# Altium schematic symbol library SCH_Switch.SchLib: 15 symbols
Pins are listed as number, name and electrical type; pins without a type are passive.

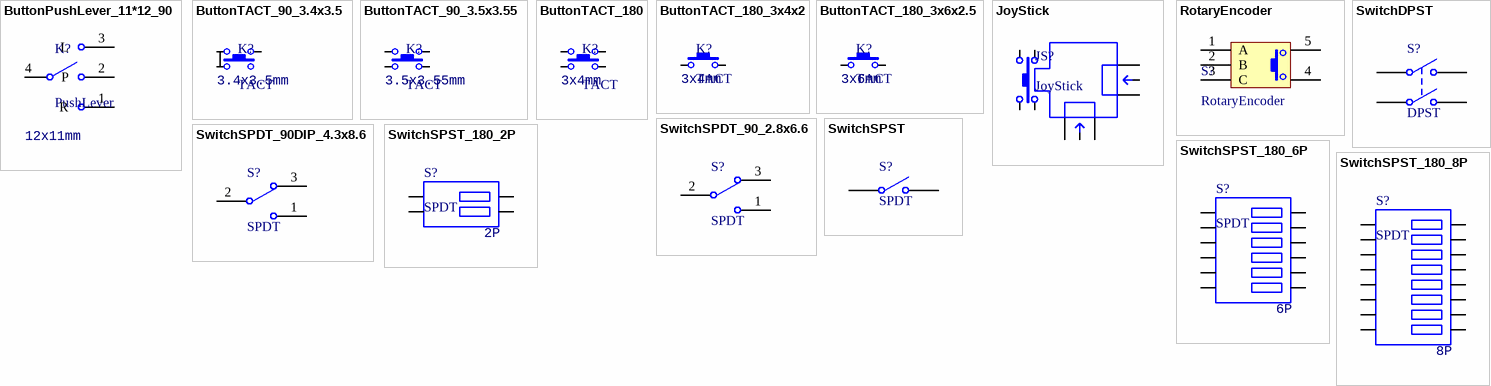
[diagram p0: symbols ButtonPushLever_11*12_90 to SwitchSPST_180_8P]

## ButtonPushLever_11*12_90
designator K?, comment PushLever  value 12x11mm
Button; type: PushLever 3P
footprint ButtonPushLever_11*12_90
pins: 1 R  , 2 P  , 3 L  , 4

## ButtonTACT_90_3.4x3.5
designator K?, comment TACT  value 3.4x3.5mm
Button; type: TACT 4P; Link: *
footprint ButtonTACT_3.4*3.5_90
pins: 1, 2, 3

## ButtonTACT_90_3.5x3.55
designator K?, comment TACT  value 3.5x3.55mm
Button; type: TACT 4P; Link: *
footprint ButtonTACT_3.5*3.55_90
pins: 1, 2, 3, 4

## ButtonTACT_180
designator K?, comment TACT  value 3x4mm
Button; type: TACT 4P
footprint ButtonTACT_4P_3x4x2_180
pins: 1, 2, 3, 4

## ButtonTACT_180_3x4x2
designator K?, comment TACT  value 3x4mm
Button; type: TACT 2P
footprint ButtonTACT_3x4x2_180
footprint ButtonTACT_3x4x2_180H
pins: 1, 2

## ButtonTACT_180_3x6x2.5
designator K?, comment TACT  value 3x6mm
Button; type: TACT 2P
footprint ButtonTACT_3x6x2.5_180
pins: 1, 2

## JoyStick
designator JS?
Type: *; Value: *
footprint JoyStick
pins: 1, 2, 3, 4, 5, 6, 7, 8, 9, 10

## RotaryEncoder
designator S?
Encoder; Value: *; Type: RotaryEncoder
footprint RotaryEncoder
pins: 1 A, 2 B, 3 C, 4, 5

## SwitchDPST
designator S?, comment DPST
Switch; Value: *; Type: DPST
footprint DPST-4 (Switch; 4 Leads)
pins: 1 COMMON1, 2 NO1, 3 COMMON2, 4 NO2

## SwitchSPDT_90_2.8x6.6
designator S?, comment SPDT
Switch; Value: 2.8x6.6mm; Type: SPDT 3P; Link: *
footprint SwitchSPDT_2.8X6.6_90
pins: 1, 2, 3

## SwitchSPDT_90DIP_4.3x8.6
designator S?, comment SPDT
Switch; Value: 4.2x8.6mm; Type: SPDT 3P
footprint SwitchSPDT_4.3X8.6_D90
pins: 1, 2, 3

## SwitchSPST
designator S?, comment SPDT
Switch; Type: SPST 2P; Value: *
footprint SPST-2 (Switch; 2 Leads)
pins: 1 COMMON, 2 NO

## SwitchSPST_180_2P
designator S?, comment SPDT  value 2P
Switch; Type: SPST 2P
footprint SwitchSPDT_P2_180
pins: 1 COMMON, 1ON ON, 2 COMMON, 2ON NO

## SwitchSPST_180_6P
designator S?, comment SPDT  value 6P
Switch; Type: SPST 6P
footprint SwitchSPDT_P6_180
pins: 1 COMMON, 1ON ON, 2 COMMON, 2ON NO, 3 COMMON, 3ON NO, 4 COMMON, 4ON NO, 5 COMMON, 5ON NO, 6 COMMON, 6ON NO

## SwitchSPST_180_8P
designator S?, comment SPDT  value 8P
Switch; Type: SPST 8P
footprint SwitchSPDT_P8_180
pins: 1 COMMON, 1ON ON, 2 COMMON, 2ON NO, 3 COMMON, 3ON NO, 4 COMMON, 4ON NO, 5 COMMON, 5ON NO, 6 COMMON, 6ON NO, 7 COMMON, 7ON NO, 8 COMMON, 8ON NO